# Altium schematic symbol library TPS723.SchLib: 1 symbol
Pins are listed as number, name and electrical type; pins without a type are passive.

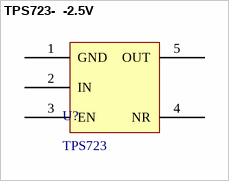
[diagram p0: symbol TPS723-  -2.5V]

## TPS723-  -2.5V
designator U?, comment TPS723
footprint SOT23-5N (3x1.6x1.1mm(长宽高))
pins: 1 GND, 2 IN, 3 EN, 4 NR, 5 OUT